# Altium footprint library urover.PCBLIB: 175 footprints (part 1 of 11)
Each footprint in its own frame and in the unit in brackets; x right, y up, seen from the top. Pads: shape width x height; smd on the part's side, far side on the other; paste and mask are expansions set on the pad; w line width, h text height; cw(c..) or ccw(c..) is an arc to the next point about the centre after c.
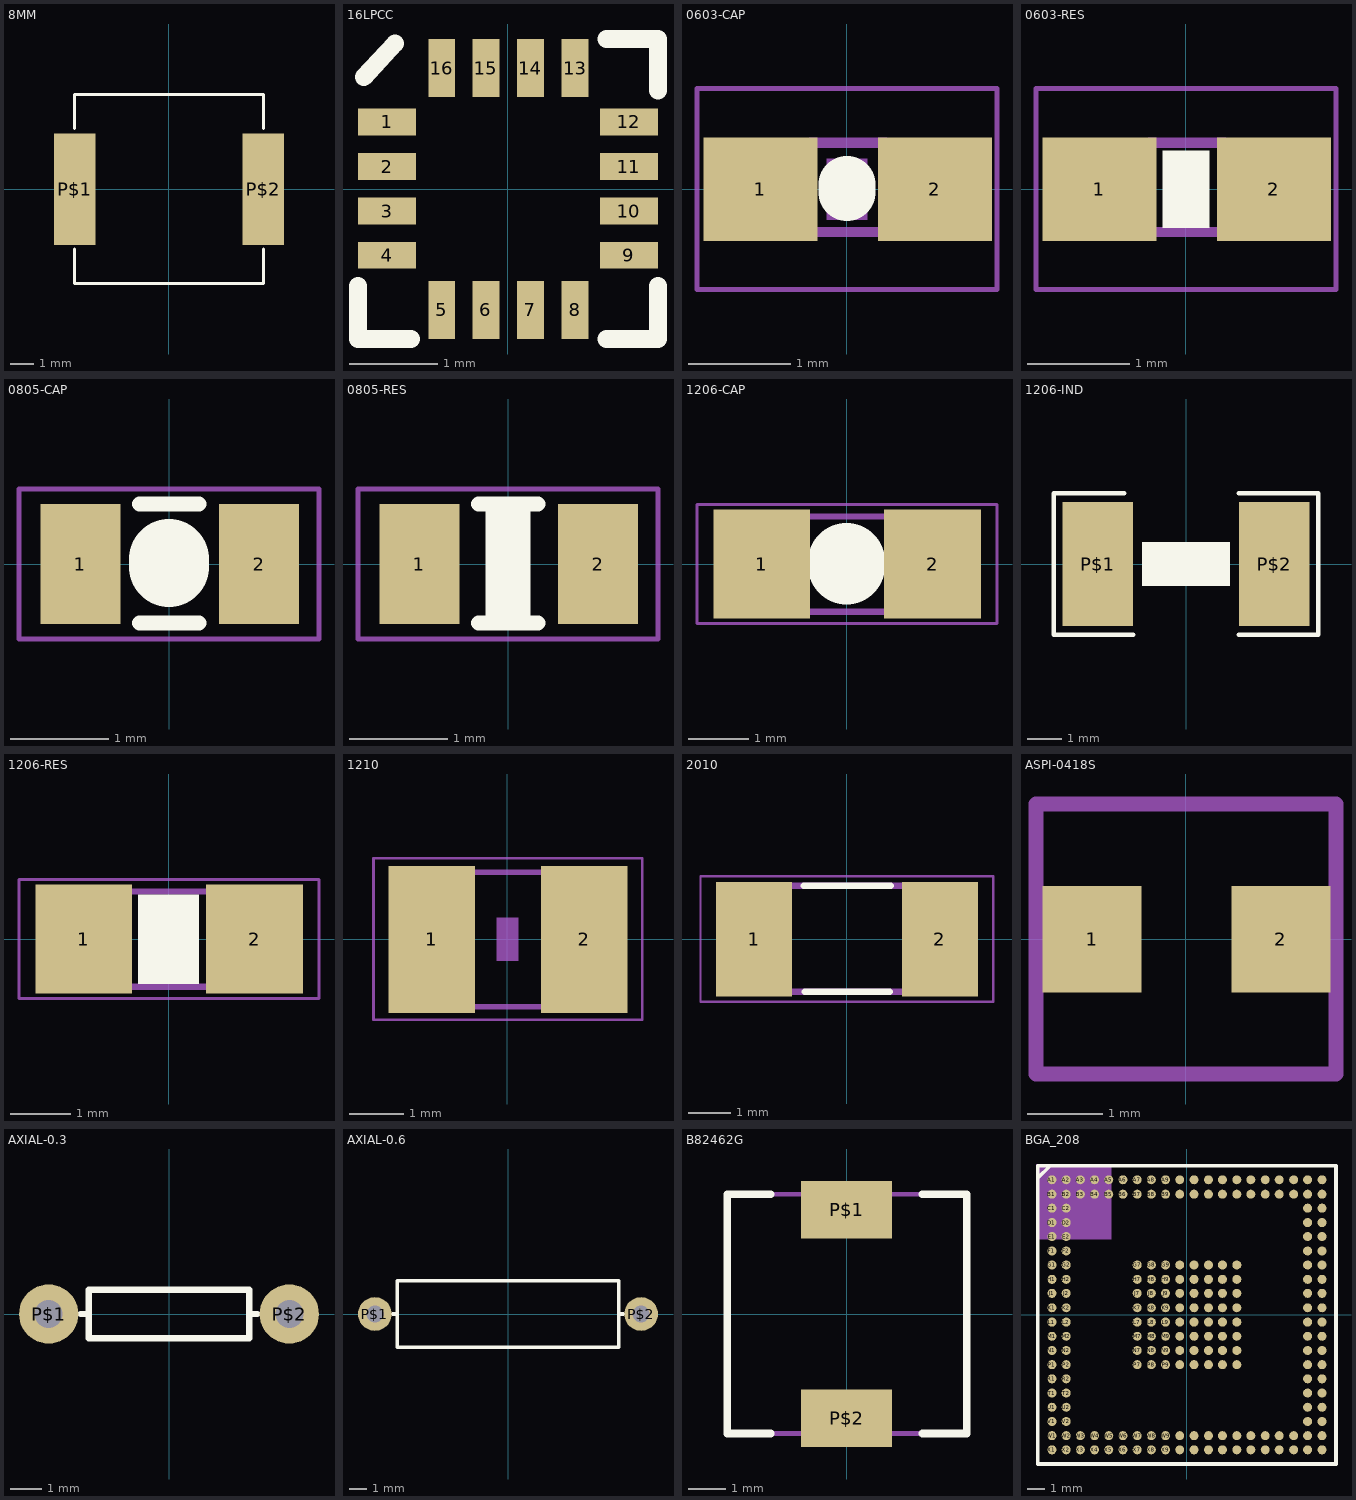
[diagram p0: the footprints below, top view; thin cyan lines are the x and y axes]

## 8MM [mil]
pads (2):
  rect 69x186 smd: P$1(-157.48,0) P$2(158,0)
Top Overlay:
  lines w5: -157.48,-100.39 -157.48,-157.48 158,-157.48 158,-100.39 ; -157.48,101 -157.48,158 158,158 158,101

## 16LPCC [mil]
pads (16):
  rect 26x12 smd: 1(-53.94,30) 2(-53.94,10) 3(-53.94,-9.84) 4(-53.94,-29.53) 9(54,-29.53) 10(54,-9.84) 11(54,10) 12(54,30)
  rect 12x26 smd: 5(-29.53,-53.94) 6(-9.84,-53.94) 7(10,-53.94) 8(30,-53.94) 13(30,54) 14(10,54) 15(-9.84,54) 16(-29.53,54)
Top Overlay:
  lines w8: -66.93,-43.31 -66.93,-66.93 -43.31,-66.93 ; -64.37,50 -50.39,65 ; 44,-66.93 67,-66.93 67,-43.31 ; 44,67 67,67 67,44

## 0603-CAP [mil]
pads (2):
  rect 44x40 smd: 1(-33.46,0) 2(34,0)
Top Overlay:
  lines w22: 0,-1.2 0,2
Mechanical 6:
  rectangle: -7.87,-11.81 8,12
Mechanical 16:
  rectangle: -33,-18.5 -13.31,19
  rectangle: 13,-18.5 33,19
  lines w4: -14.02,-16.5 15,-16.5 ; -14.02,18 15,18
Mechanical 27:
  lines w2: -57.99,-38.7 58,-38.7 58,39 -57.99,39 -57.99,-38.7

## 0603-RES [mil]
pads (2):
  rect 44x40 smd: 1(-33.46,0) 2(34,0)
Top Overlay:
  rectangle: -9,-15 9,15
Mechanical 6:
  rectangle: -7.87,-11.81 8,12
Mechanical 16:
  rectangle: -33,-18.5 -13.31,19
  rectangle: 13,-18.5 33,19
  lines w4: -14.02,-16.5 15,-16.5 ; -14.02,18 15,18
Mechanical 27:
  lines w2: -57.99,-38.7 58,-38.7 58,39 -57.99,39 -57.99,-38.7

## 0805-CAP [mil]
pads (2):
  rect 32x48 smd: 1(-35.43,0) 2(36,0)
Top Overlay:
  lines w6: -11.81,-23.62 12,-23.62 ; -11.81,24 12,24
  lines w32: 0,-1.2 0,2
Mechanical 6:
  rectangle: -7.87,-11.81 8,12
Mechanical 27:
  lines w2: -60,-30 60,-30 60,30 -60,30 -60,-30

## 0805-RES [mil]
pads (2):
  rect 32x48 smd: 1(-35.43,0) 2(36,0)
Top Overlay:
  rectangle: -9,-21 9,21
  lines w6: -11.81,-23.62 12,-23.62 ; -11.81,24 12,24
Mechanical 6:
  rectangle: -7.87,-11.81 8,12
Mechanical 27:
  lines w2: -60,-30 60,-30 60,30 -60,30 -60,-30

## 1206-CAP [mil]
pads (2):
  rect 63x71 smd: 1(-55.12,0) 2(56,0)
Top Overlay:
  lines w50: 0,-1.2 0,2
Mechanical 6:
  rectangle: -7.87,-15.75 8,16
Mechanical 16:
  rectangle: -67,-33.5 -37.47,34
  rectangle: 38,-33.43 67,34
  lines w4: -37.99,-30.98 38,-30.98 ; -37.99,31 38,31
Mechanical 27:
  lines w2: -97.36,-38.7 98,-38.7 98,39 -97.36,39 -97.36,-38.7

## 1206-IND [mil]
pads (2):
  rect 80x140 smd: P$1(-100,0) P$2(100,0)
Top Overlay:
  rectangle: -50,-25 50,25
  lines w5: -70,80 -150,80 -150,-80 -60,-80 ; 60,-80 150,-80 150,80 60,80

## 1206-RES [mil]
pads (2):
  rect 63x71 smd: 1(-55.12,0) 2(56,0)
Top Overlay:
  rectangle: -20,-29 20,29
Mechanical 6:
  rectangle: -7.87,-15.75 8,16
Mechanical 16:
  rectangle: -67,-33.5 -37.47,34
  rectangle: 38,-33.43 67,34
  lines w4: -37.99,-30.98 38,-30.98 ; -37.99,31 38,31
Mechanical 27:
  lines w2: -97.36,-38.7 98,-38.7 98,39 -97.36,39 -97.36,-38.7

## 1210 [mil]
pads (2):
  rect 63x107 smd: 1(-55.12,0) 2(56,0)
Mechanical 6:
  rectangle: -7.87,-15.75 8,16
Mechanical 16:
  rectangle: -67,-51 -37.47,52
  rectangle: 38,-51.36 67,51
  lines w4: -38,-49 38,-49 ; -38,49 38,49
Mechanical 27:
  lines w2: -97.36,-58.39 98,-58.39 98,59 -97.36,59 -97.36,-58.39

## 2010 [mil]
pads (2):
  rect 71x107 smd: 1(-86.61,0) 2(87,0)
Top Overlay:
  lines w6: -40.43,50 41,50 ; -39.45,-49.02 40,-49.02
Mechanical 16:
  rectangle: -98,-52 -64.54,53
  rectangle: 65,-52 99,53
  lines w6: -65.43,50 66,50 ; -64.45,-49.02 67,-49.02
Mechanical 27:
  lines w2: -136.73,-58.39 137,-58.39 137,59 -136.73,59 -136.73,-58.39

## ASPI-0418S [mil]
pads (2):
  rect 52x56 smd: 1(-49.21,0) 2(50,0)
Mechanical 16:
  lines w8: -78.74,-70.87 79,-70.87 79,71 -78.74,71 -78.74,-70.87

## AXIAL-0.3 [mil]
pads (2):
  round 74 hole 35: P$1(-150,0) P$2(150,0)
Top Overlay:
  lines w8: -110,0 -100,0 ; 110,0 100,0 ; -100,0 -100,-30 100,-30 100,0 ; -100,0 -100,30 100,30 100,0

## AXIAL-0.6 [mil]
pads (2):
  round 76 hole 38: P$1(-300,0) P$2(300,0)
Top Overlay:
  lines w8: -260,0 -250,0 ; 260,0 250,0 ; -250,0 -250,-75 250,-75 250,0 ; -250,0 -250,75 250,75 250,0

## B82462G [mil]
pads (2):
  rect 95x60 smd: P$1(0,109) P$2(0,-108.27)
Top Overlay:
  lines w8: -78.74,-124.02 -124.02,-124.02 -124.02,125 -78.74,125 ; 79,-124.02 125,-124.02 125,125 79,125
Mechanical 16:
  lines w5: -124.02,-124.02 -124.02,125 125,125 125,-124.02 -124.02,-124.02

## BGA_208 [mil]
pads (208):
  rrect100% 20x20 smd: A1(-299.21,300) A2(-267.72,300) A3(-236.22,300) A4(-204.72,300) A5(-173.23,300) A6(-141.73,300) A7(-110.24,300) A8(-78.74,300) A9(-47.24,300) A10(-15.75,300) A11(16,300) A12(48,300) A13(79,300) A14(111,300) A15(142,300) A16(174,300) A17(205,300) A18(237,300) A19(268,300) A20(300,300) B1(-299.21,268) B2(-267.72,268) B3(-236.22,268) B4(-204.72,268) B5(-173.23,268) B6(-141.73,268) B7(-110.24,268) B8(-78.74,268) B9(-47.24,268) B10(-15.75,268) B11(16,268) B12(48,268) B13(79,268) B14(111,268) B15(142,268) B16(174,268) B17(205,268) B18(237,268) B19(268,268) B20(300,268) C1(-299.21,237) C2(-267.72,237) C19(268,237) C20(300,237) D1(-299.21,205) D2(-267.72,205) D19(268,205) D20(300,205) E1(-299.21,174) E2(-267.72,174) E19(268,174) E20(300,174) F1(-299.21,142) F2(-267.72,142) F19(268,142) F20(300,142) G1(-299.21,111) G2(-267.72,111) G7(-110.24,111) G8(-78.74,111) G9(-47.24,111) G10(-15.75,111) G11(16,111) G12(48,111) G13(79,111) G14(111,111) G19(268,111) G20(300,111) H1(-299.21,79) H2(-267.72,79) H7(-110.24,79) H8(-78.74,79) H9(-47.24,79) H10(-15.75,79) H11(16,79) H12(48,79) H13(79,79) H14(111,79) H19(268,79) H20(300,79) J1(-299.21,48) J2(-267.72,48) J7(-110.24,48) J8(-78.74,48) J9(-47.24,48) J10(-15.75,48) J11(16,48) J12(48,48) J13(79,48) J14(111,48) J19(268,48) J20(300,48) K1(-299.21,16) K2(-267.72,16) K7(-110.24,16) K8(-78.74,16) K9(-47.24,16) K10(-15.75,16) K11(16,16) K12(48,16) K13(79,16) K14(111,16) K19(268,16) K20(300,16) L1(-299.21,-15.75) L2(-267.72,-15.75) L7(-110.24,-15.75) L8(-78.74,-15.75) L9(-47.24,-15.75) L10(-15.75,-15.75) L11(16,-15.75) L12(48,-15.75) L13(79,-15.75) L14(111,-15.75) L19(268,-15.75) L20(300,-15.75) M1(-299.21,-47.24) M2(-267.72,-47.24) M7(-110.24,-47.24) M8(-78.74,-47.24) M9(-47.24,-47.24) M10(-15.75,-47.24) M11(16,-47.24) M12(48,-47.24) M13(79,-47.24) M14(111,-47.24) M19(268,-47.24) M20(300,-47.24) N1(-299.21,-78.74) N2(-267.72,-78.74) N7(-110.24,-78.74) N8(-78.74,-78.74) N9(-47.24,-78.74) N10(-15.75,-78.74) N11(16,-78.74) N12(48,-78.74) N13(79,-78.74) N14(111,-78.74) N19(268,-78.74) N20(300,-78.74) P1(-299.21,-110.24) P2(-267.72,-110.24) P7(-110.24,-110.24) P8(-78.74,-110.24) P9(-47.24,-110.24) P10(-15.75,-110.24) P11(16,-110.24) P12(48,-110.24) P13(79,-110.24) P14(111,-110.24) P19(268,-110.24) P20(300,-110.24) R1(-299.21,-141.73) R2(-267.72,-141.73) R19(268,-141.73) R20(300,-141.73) T1(-299.21,-173.23) T2(-267.72,-173.23) T19(268,-173.23) T20(300,-173.23) U1(-299.21,-204.72) U2(-267.72,-204.72) U19(268,-204.72) U20(300,-204.72) V1(-299.21,-236.22) V2(-267.72,-236.22) V19(268,-236.22) V20(300,-236.22) W1(-299.21,-267.72) W2(-267.72,-267.72) W3(-236.22,-267.72) W4(-204.72,-267.72) W5(-173.23,-267.72) W6(-141.73,-267.72) W7(-110.24,-267.72) W8(-78.74,-267.72) W9(-47.24,-267.72) W10(-15.75,-267.72) W11(16,-267.72) W12(48,-267.72) W13(79,-267.72) W14(111,-267.72) W15(142,-267.72) W16(174,-267.72) W17(205,-267.72) W18(237,-267.72) W19(268,-267.72) W20(300,-267.72) X1(-299.21,-299.21) X2(-267.72,-299.21) X3(-236.22,-299.21) X4(-204.72,-299.21) X5(-173.23,-299.21) X6(-141.73,-299.21) X7(-110.24,-299.21) X8(-78.74,-299.21) X9(-47.24,-299.21) X10(-15.75,-299.21) X11(16,-299.21) X12(48,-299.21) X13(79,-299.21) X14(111,-299.21) X15(142,-299.21) X16(174,-299.21) X17(205,-299.21) X18(237,-299.21) X19(268,-299.21) X20(300,-299.21)
Top Overlay:
  lines w8: -330.65,304 -330.65,331 -303.15,331 ; -330.65,304 -330.65,-330.65 331,-330.65 331,331 -303.15,331 ; -330.65,304 -303.15,331
Top Solder:
  drawing of 208 lines, arcs and shapes, not listed
Mechanical 16:
  rectangle: -334.65,168 -167.32,335